# Altium footprint library JDB-001.PcbLib: 40 footprints (part 2 of 3)
Each footprint in its own frame and in the unit in brackets; x right, y up, seen from the top. Pads: shape width x height; smd on the part's side, far side on the other; paste and mask are expansions set on the pad; w line width, h text height; cw(c..) or ccw(c..) is an arc to the next point about the centre after c.
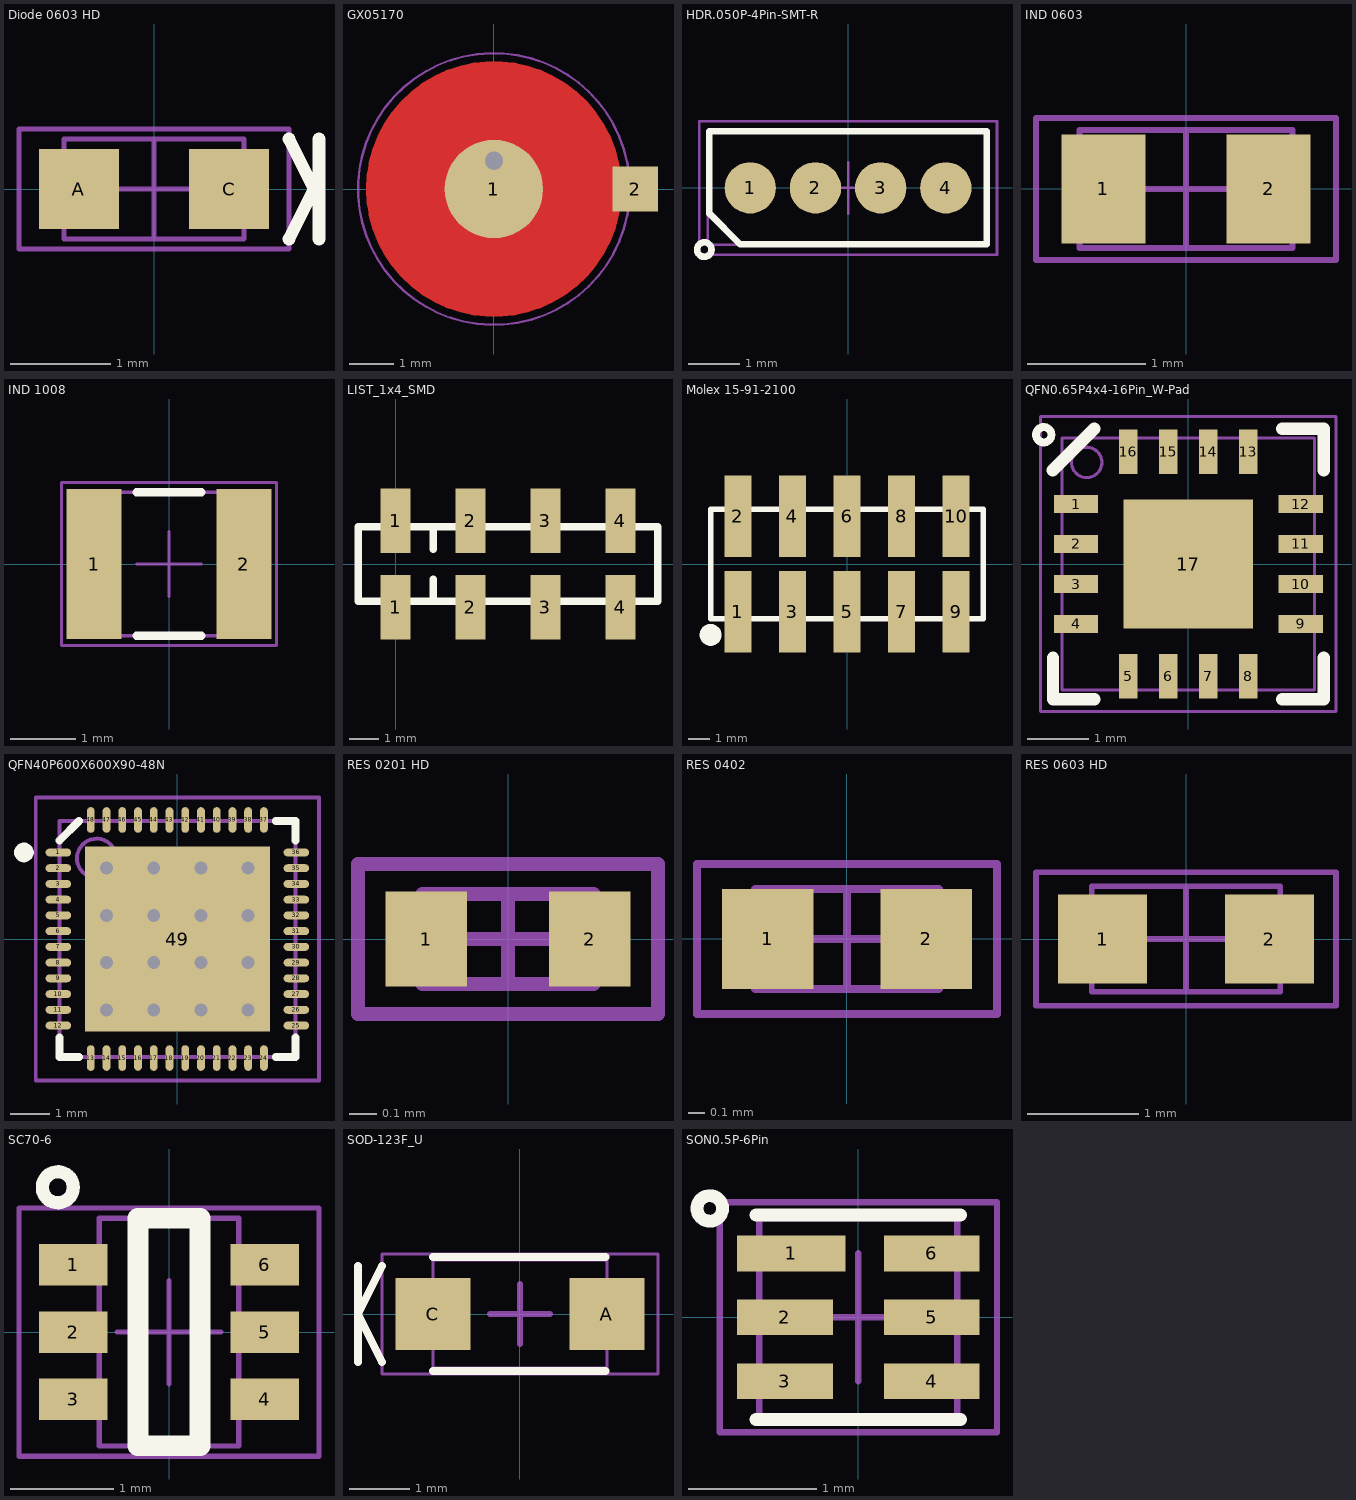
[diagram p1: the footprints below, top view; thin cyan lines are the x and y axes]

## Diode 0603 HD [mm] "Chip Diode, 2-Leads, Body 1.80x1.0mm, IPC High Density"
height 0.85
pads (2):
  rect 0.8x0.8 smd: A(-0.75,0) C(0.75,0)
Top Overlay:
  lines w0.127: 1.35,-0.5 1.6,0 1.35,0.5 ; 1.65,-0.5 1.65,0.5
Mechanical 11:
  text ".Designator" at 1.27,0.356 h0.7
Mechanical 13:
  lines w0.05: -0.9,-0.5 -0.9,0.5 0.9,0.5 0.9,-0.5 -0.9,-0.5
Mechanical 15:
  lines w0.05: -0.475,0 0.475,0 ; 0,-0.475 0,0.475 ; -1.35,-0.6 -1.35,0.6 1.35,0.6 1.35,-0.6 -1.35,-0.6
3D body: height 0.85, standoff 0, extent -0.9,-0.5 0.57,0.5
3D body: height 0.85, standoff 0, extent 0.57,-0.5 0.9,0.5

## GX05170 [mil] "Snap dome, 5.3mm dia"
height 10
pads (2):
  round 87 smd paste-50 mask+70: 1(0,0)
  rect 40x40 smd paste-40: 2(125,0)
via 0,25 diameter 28 hole 16
Top Layer:
  circle w26: c0,0 r100
  pour cut-out: -26.36,95 40,95 95,40 95,-45 45,-95 -45,-95 -95,-45 -95,47.81
Mechanical 11:
  text ".Designator" at -98,18 h40
Mechanical 13:
  circle w2: c0,0 r104
Mechanical 15:
  circle w2: c0,0 r120.1
  lines w2: -20,0 20,0 ; 0,-20 0,25
3D body: height 10, standoff 0, extent -103.18,-103.79 104,103.8

## HDR.050P-4Pin-SMT-R [mm] "Header 0.050\" Pitch, 4Pin 1 row, SMT with 1mm Round pads"
height 6.4
pads (4):
  round 1 smd mask+0.08: 1(-1.905,0) 2(-0.635,0) 3(0.635,0) 4(1.905,0)
Top Overlay:
  circle w0.127: c-2.8,-1.2 r0.141
  lines w0.127: -2.7,-0.5 -2.1,-1.1 2.7,-1.1 2.7,1.1 -2.7,1.1 -2.7,-0.5
Mechanical 11:
  text ".Designator" at -1.854,-0.494 h1
Mechanical 13:
  lines w0.05: -2.735,-1.11 -2.735,1.11 2.735,1.11 2.735,-1.11 -2.735,-1.11
Mechanical 15:
  lines w0.05: -0.5,0 0.5,0 ; 0,-0.5 0,0.5 ; -2.9,-1.3 -2.9,1.3 2.9,1.3 2.9,-1.3 -2.9,-1.3
3D body: height 4.98, standoff 0.58, extent -2.735,-1.11 2.735,1.11
3D body: height 6.4, standoff 0, extent 1.667,-0.239 2.145,0.24
3D body: height 6.4, standoff 0, extent 0.397,-0.239 0.875,0.24
3D body: height 6.4, standoff 0, extent -0.873,-0.239 -0.395,0.24
3D body: height 6.4, standoff 0, extent -2.143,-0.239 -1.665,0.24

## IND 0603 [mm] "Chip Inductor 0603, 2-Leads, Body 1.60x0.80mm, IPC High Density"
height 1
pads (2):
  rect 0.71x0.92 smd: 1(-0.7,0) 2(0.7,0)
Mechanical 11:
  text ".Designator" at 0.91,0.269 h0.5
Mechanical 13:
  lines w0.05: -0.9,-0.5 0.9,-0.5 0.9,0.5 -0.9,0.5 -0.9,-0.5
Mechanical 15:
  lines w0.05: -0.5,0 0.5,0 ; 0,-0.5 0,0.5 ; -1.27,-0.6 1.27,-0.6 1.27,0.6 -1.27,0.6 -1.27,-0.6
3D body: height 1, standoff 0, extent 0.55,-0.5 0.9,0.5
3D body: height 1, standoff 0, extent -0.9,-0.5 -0.55,0.5
3D body: height 1, standoff 0, extent -0.55,-0.5 0.55,0.5

## IND 1008 [mm] "Inductor 1008, 2.7mm x 2.2mm"
height 1
pads (2):
  rect 0.85x2.3 smd: 1(-1.15,0) 2(1.15,0)
Top Overlay:
  lines w0.127: -0.5,-1.1 0.5,-1.1 ; -0.5,1.1 0.5,1.1
Mechanical 11:
  text ".Designator" at -1.5,-0.475 h1
Mechanical 13:
  lines w0.05: -1.35,-1.1 -1.35,1.1 1.35,1.1 1.35,-1.1 -1.35,-1.1
Mechanical 15:
  lines w0.05: -0.5,0 0.5,0 ; 0,-0.5 0,0.5 ; -1.65,-1.25 -1.65,1.25 1.65,1.25 1.65,-1.25 -1.65,-1.25
3D body: height 1, standoff 0, extent -0.8,-1.075 0.8,1.125
3D body: height 1, standoff 0, extent -1.35,-1.1 -0.8,1.1
3D body: height 1, standoff 0, extent 0.8,-1.1 1.35,1.1

## LIST_1x4_SMD [mm]
pads (8):
  rect 1.02x2.19 smd: 1(0,-1.465) 1(0,1.465) 2(2.54,-1.465) 2(2.54,1.465) 3(5.08,-1.465) 3(5.08,1.465) 4(7.62,-1.465) 4(7.62,1.465)
Top Overlay:
  lines w0.254: 1.27,-1.27 1.27,-0.508 ; 1.27,0.508 1.27,1.27 ; -1.27,-1.27 -1.27,1.27 8.89,1.27 8.89,-1.27 -1.27,-1.27
3D body "pin_header_a-sl254-eg-g04mp1.stp": height 9.82, standoff -0.02, extent -1.27,-2.5 8.89,2.5

## Molex 15-91-2100 [mil]
pads (10):
  rect 50x150 smd: 1(-200,-87.5) 2(-200,87.5) 3(-100,-87.5) 4(-100,87.5) 5(0,-87.5) 6(0,87.5) 7(100,-87.5) 8(100,87.5) 9(200,-87.5) 10(200,87.5)
Top Overlay:
  circle w20: c-250,-130 r10
  lines w10: -250,-100 -250,100 250,100 250,-100 -250,-100
3D body "User Library-Molex - 15-91-0100 (Pin Header 2_54mm 10 Pin).step": height 380.31, standoff 0, extent -250,-137.8 250,137.8

## PCBComponent_1 [mm]

## QFN0.65P4x4-16Pin_W-Pad [mm] "QFN, 16-Leads, Body 4x4mm, Pitch 0.65mm, Thermal Pad 2.1x2.1mm, IPC High Density"
height 0.8
pads (17):
  rect 0.72x0.3 smd: 1(-1.825,0.975) 2(-1.825,0.325) 3(-1.825,-0.325) 4(-1.825,-0.975) 9(1.825,-0.975) 10(1.825,-0.325) 11(1.825,0.325) 12(1.825,0.975)
  rect 0.3x0.72 smd: 5(-0.975,-1.825) 6(-0.325,-1.825) 7(0.325,-1.825) 8(0.975,-1.825) 13(0.975,1.825) 14(0.325,1.825) 15(-0.325,1.825) 16(-0.975,1.825)
  rect 2.1x2.1 smd paste-1.05: 17(0,0)
Top Overlay:
  circle w0.127: c-2.35,2.1 r0.125
  lines w0.2: -2.2,-1.525 -2.2,-2.2 -1.525,-2.2 ; 1.525,-2.2 2.2,-2.2 2.2,-1.525 ; 1.525,2.2 2.2,2.2 2.2,1.525
  lines w0.203: -2.2,1.525 -1.525,2.2
Top Paste:
  rectangle: -0.95,-0.95 0.95,0.95
Mechanical 11:
  text ".Designator" at 1.219,0.381 h0.8
Mechanical 13:
  circle w0.051: c-1.651,1.651 r0.247
  lines w0.051: -2.05,-2.05 2.05,-2.05 2.05,2.05 -2.05,2.05 -2.05,-2.05
Mechanical 15:
  lines w0.05: -0.5,0 0.5,0 ; 0,-0.5 0,0.5 ; -2.4,-2.4 2.4,-2.4 2.4,2.4 -2.4,2.4 -2.4,-2.4
3D body: height 0.8, standoff 0, extent -2.05,-2.05 2.05,2.05

## QFN40P600X600X90-48N [mm]
pads (49):
  oval 0.65x0.2 smd: 1(-3.025,2.2) 2(-3.025,1.8) 3(-3.025,1.4) 4(-3.025,1) 5(-3.025,0.6) 6(-3.025,0.2) 7(-3.025,-0.2) 8(-3.025,-0.6) 9(-3.025,-1) 10(-3.025,-1.4) 11(-3.025,-1.8) 12(-3.025,-2.2) 25(3.025,-2.2) 26(3.025,-1.8) 27(3.025,-1.4) 28(3.025,-1) 29(3.025,-0.6) 30(3.025,-0.2) 31(3.025,0.2) 32(3.025,0.6) 33(3.025,1) 34(3.025,1.4) 35(3.025,1.8) 36(3.025,2.2)
  oval 0.2x0.65 smd: 13(-2.2,-3.025) 14(-1.8,-3.025) 15(-1.4,-3.025) 16(-1,-3.025) 17(-0.6,-3.025) 18(-0.2,-3.025) 19(0.2,-3.025) 20(0.6,-3.025) 21(1,-3.025) 22(1.4,-3.025) 23(1.8,-3.025) 24(2.2,-3.025) 37(2.2,3.025) 38(1.8,3.025) 39(1.4,3.025) 40(1,3.025) 41(0.6,3.025) 42(0.2,3.025) 43(-0.2,3.025) 44(-0.6,3.025) 45(-1,3.025) 46(-1.4,3.025) 47(-1.8,3.025) 48(-2.2,3.025)
  rect 4.7x4.7 smd: 49(0,0)
via -1.8,1.8 diameter 0.66 hole 0.33
via -0.6,1.8 diameter 0.66 hole 0.33
via 0.6,1.8 diameter 0.66 hole 0.33
via 1.8,1.8 diameter 0.66 hole 0.33
via -1.8,0.6 diameter 0.66 hole 0.33
via -0.6,0.6 diameter 0.66 hole 0.33
via 0.6,0.6 diameter 0.66 hole 0.33
via 1.8,0.6 diameter 0.66 hole 0.33
via -1.8,-0.6 diameter 0.66 hole 0.33
via -0.6,-0.6 diameter 0.66 hole 0.33
via 0.6,-0.6 diameter 0.66 hole 0.33
via 1.8,-0.6 diameter 0.66 hole 0.33
via -1.8,-1.8 diameter 0.66 hole 0.33
via -0.6,-1.8 diameter 0.66 hole 0.33
via 0.6,-1.8 diameter 0.66 hole 0.33
via 1.8,-1.8 diameter 0.66 hole 0.33
Top Overlay:
  circle w0.25: c-3.9,2.2 r0.125
  lines w0.2: -3,-2.5 -3,-3 -2.5,-3 ; -3,2.5 -2.5,3 ; 2.5,-3 3,-3 3,-2.5 ; 2.5,3 3,3 3,2.5
Mechanical 13:
  circle w0.1: c-2.05,2.05 r0.5
  lines w0.1: -3,-3 -3,3 3,3 3,-3 -3,-3
Mechanical 15:
  lines w0.1: -0.5,0 0.5,0 ; 0,-0.5 0,0.5 ; -3.6,-3.6 -3.6,3.6 3.6,3.6 3.6,-3.6 -3.6,-3.6
3D body: height 0.9, standoff 0, extent -3,-3 3,3

## RES 0201 HD [mm] "Resistor, 0201 High Density"
height 0.26
pads (2):
  rect 0.3x0.35 smd mask+0.05: 1(-0.3,0) 2(0.3,0)
Mechanical 11:
  text ".Designator" at -0.584,-0.152 h0.3
Mechanical 13:
  lines w0.05: -0.315,-0.165 0.315,-0.165 0.315,0.165 -0.315,0.165 -0.315,-0.165
Mechanical 15:
  lines w0.05: -0.165,0 0.165,0 ; 0,-0.165 0,0.165 ; -0.55,-0.275 -0.55,0.275 0.55,0.275 0.55,-0.275 -0.55,-0.275
3D body: height 0.26, standoff 0, extent -0.165,-0.165 0.165,0.165
3D body: height 0.26, standoff 0, extent -0.315,-0.165 -0.165,0.165
3D body: height 0.26, standoff 0, extent 0.165,-0.165 0.315,0.165

## RES 0402 [mm] "Chip Resistor, 2-Leads, Body 1.05x0.54mm, IPC Medium Density"
height 0.4
pads (2):
  rect 0.55x0.6 smd: 1(-0.475,0) 2(0.475,0)
Mechanical 11:
  text ".Designator" at -0.864,-0.229 h0.5
Mechanical 13:
  lines w0.05: -0.55,-0.3 -0.55,0.3 0.55,0.3 0.55,-0.3 -0.55,-0.3
Mechanical 15:
  lines w0.05: -0.3,0 0.3,0 ; 0,-0.3 0,0.3 ; -0.9,-0.45 -0.9,0.45 0.9,0.45 0.9,-0.45 -0.9,-0.45
3D body: height 0.4, standoff 0, extent -0.35,-0.3 0.35,0.3
3D body: height 0.4, standoff 0, extent -0.55,-0.3 -0.35,0.3
3D body: height 0.4, standoff 0, extent 0.35,-0.3 0.55,0.3

## RES 0603 HD [mm] "Chip Resistor, 2-Leads, Body 1.60x0.82mm, IPC High Density"
height 0.6
pads (2):
  rect 0.8x0.8 smd: 1(-0.75,0) 2(0.75,0)
Mechanical 11:
  text ".Designator" at 1.118,0.356 h0.7
Mechanical 13:
  lines w0.05: -0.85,-0.475 0.85,-0.475 0.85,0.475 -0.85,0.475 -0.85,-0.475
Mechanical 15:
  lines w0.05: -0.475,0 0.475,0 ; 0,-0.475 0,0.475 ; -1.35,-0.6 1.35,-0.6 1.35,0.6 -1.35,0.6 -1.35,-0.6
3D body: height 0.55, standoff 0, extent 0.57,-0.475 0.85,0.475
3D body: height 0.55, standoff 0, extent -0.85,-0.475 -0.57,0.475
3D body: height 0.55, standoff 0, extent -0.57,-0.475 0.57,0.475

## SC70-6 [mm] "SC70-6, 6-Pin, Body 2.00x2.10mm, Pitch 0.65mm, IPC High Density"
height 1.1
pads (6):
  rect 0.66x0.4 smd: 1(-0.925,0.65) 2(-0.925,0) 3(-0.925,-0.65) 4(0.925,-0.65) 5(0.925,0) 6(0.925,0.65)
Top Overlay:
  circle w0.127: c-1.075,1.4 r0.15
  lines w0.2: -0.3,-1.1 0.3,-1.1 0.3,1.1 -0.3,1.1 -0.3,-1.1
Mechanical 11:
  text ".Designator" at -0.325,1.2 h0.8
Mechanical 13:
  lines w0.05: -0.675,-1.1 -0.675,1.1 0.675,1.1 0.675,-1.1 -0.675,-1.1
Mechanical 15:
  lines w0.05: -0.5,0 0.5,0 ; 0,-0.5 0,0.5 ; -1.45,-1.2 -1.45,1.2 1.45,1.2 1.45,-1.2 -1.45,-1.2
3D body: height 1.1, standoff 0.1, extent -0.675,-1.1 0.675,1.1

## SOD-123F_U [mm] "SOD-123F, Unidirectional, 2-Leads, Body 1.65x3.60mm, IPC High Density"
height 0.98
pads (2):
  rect 1.25x1.2 smd: A(1.45,0) C(-1.45,0)
Top Overlay:
  lines w0.127: -2.7,-0.8 -2.7,0.8 ; -2.3,-0.8 -2.7,0 -2.3,0.8 ; -1.45,-0.95 1.425,-0.95 ; -1.45,0.95 1.425,0.95
Mechanical 11:
  text ".Designator" at -1.5,-0.475 h1
Mechanical 13:
  lines w0.05: -1.45,-0.9 -1.45,0.9 1.45,0.9 1.45,-0.9 -1.45,-0.9
Mechanical 15:
  lines w0.05: -2.3,-1 -2.3,1 2.3,1 2.3,-1 -2.3,-1
  lines w0.1: -0.5,0 0.5,0 ; 0,-0.5 0,0.5
3D body: height 0.98, standoff 0, extent -0.9,-0.9 1.45,0.9
3D body: height 0.98, standoff 0, extent -1.45,-0.9 -0.9,0.9

## SON0.5P-6Pin [mm] "Small Outline No-Lead Package, 0.5pitch, 6 pin, no thermal pad, 1.5mm x 1.5mm"
height 0.8
pads (6):
  rect 0.85x0.28 smd mask+0.05: 1(-0.525,0.5)
  rect 0.75x0.28 smd mask+0.05: 2(-0.575,0) 3(-0.575,-0.5) 4(0.575,-0.5) 5(0.575,0) 6(0.575,0.5)
Top Overlay:
  circle w0.1: c-1.162,0.852 r0.1
  lines w0.1: -0.8,-0.8 0.8,-0.8 ; -0.8,0.8 0.8,0.8
Mechanical 11:
  text ".Designator" at -0.914,-0.254 h0.5
Mechanical 13:
  lines w0.05: -0.775,-0.775 -0.775,0.775 0.775,0.775 0.775,-0.775 -0.775,-0.775
Mechanical 15:
  lines w0.05: -0.5,0 0.5,0 ; 0,-0.5 0,0.5 ; -1.085,-0.9 -1.085,0.9 1.085,0.9 1.085,-0.9 -1.085,-0.9
3D body: height 0.8, standoff 0, extent -0.775,-0.775 0.775,0.775